# EAGLE library part STEC12E (library he-custom)
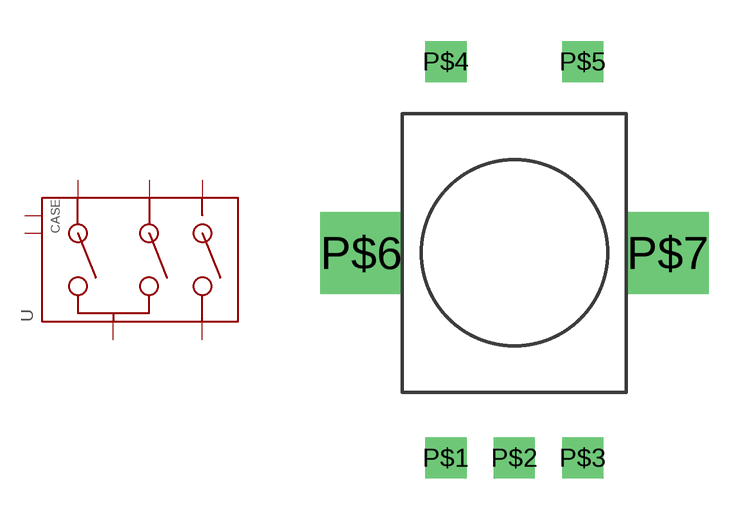
[diagram p0: symbol with the pads of STEC12; footprint STEC12]

Designator prefix -

## STEC12E  [STEC12]
P$1  P$1
P$2  P$2
P$3  P$3
P$4  P$4
P$5  P$5
P$6  CASE
P$7  CASE1

## Footprint STEC12 (pad centres in mm)
drill 1 square: P$1 -2.5,-7.5; P$2 0,-7.5; P$3 2.5,-7.5; P$4 -2.5,7; P$5 2.5,7
drill 2 square: P$6 -5.6,0; P$7 5.6,0